# EAGLE library part PIN_8 (library dooba)
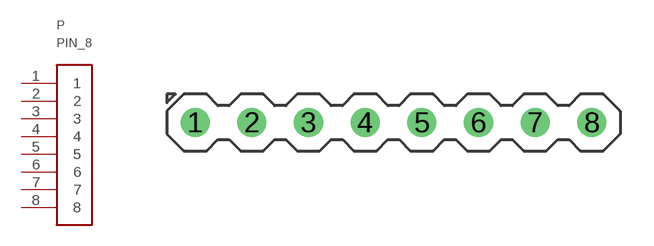
[diagram p9: symbol with the pads of PIN_8; footprint PIN_8]

Designator prefix P

## PIN_8  [PIN_8]
1  1
2  2
3  3
4  4
5  5
6  6
7  7
8  8

## Footprint PIN_8 (pad centres in mm)
drill 0.8: 1 -8.89,0; 2 -6.35,0; 3 -3.81,0; 4 -1.27,0; 5 1.27,0; 6 3.81,0; 7 6.35,0; 8 8.89,0